# EAGLE library part LTC4417 (library Skoba)
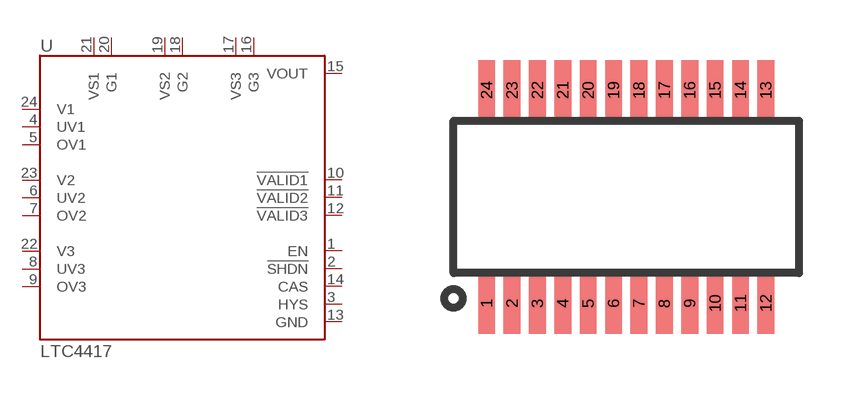
[diagram p23: symbol with the pads of SSOP24; footprint SSOP24]

Designator prefix U

## LTC4417  [SSOP24]
1  EN
2  !SHDN
3  HYS
4  UV1
5  OV1
6  UV2
7  OV2
8  UV3
9  OV3
10  !VALID1
11  !VALID2
12  !VALID3
13  GND
14  CAS
15  VOUT
16  G3
17  VS3
18  G2
19  VS2
20  G1
21  VS1
22  V3
23  V2
24  V1

## Footprint SSOP24 (pad centres in mm)
smd 0.419 x 1.524: 1 -3.493,-2.667; 2 -2.857,-2.667; 3 -2.223,-2.667; 4 -1.587,-2.667; 5 -0.953,-2.667; 6 -0.318,-2.667; 7 0.318,-2.667; 8 0.953,-2.667; 9 1.587,-2.667; 10 2.223,-2.667; 11 2.857,-2.667; 12 3.493,-2.667; 13 3.493,2.667; 14 2.857,2.667; 15 2.223,2.667; 16 1.587,2.667; 17 0.953,2.667; 18 0.318,2.667; 19 -0.318,2.667; 20 -0.953,2.667; 21 -1.587,2.667; 22 -2.223,2.667; 23 -2.857,2.667; 24 -3.493,2.667